# Altium footprint library SparkFun-Capacitors.PCBLIB: 37 footprints (part 2 of 3)
Each footprint in its own frame and in the unit in brackets; x right, y up, seen from the top. Pads: shape width x height; smd on the part's side, far side on the other; paste and mask are expansions set on the pad; w line width, h text height; cw(c..) or ccw(c..) is an arc to the next point about the centre after c.
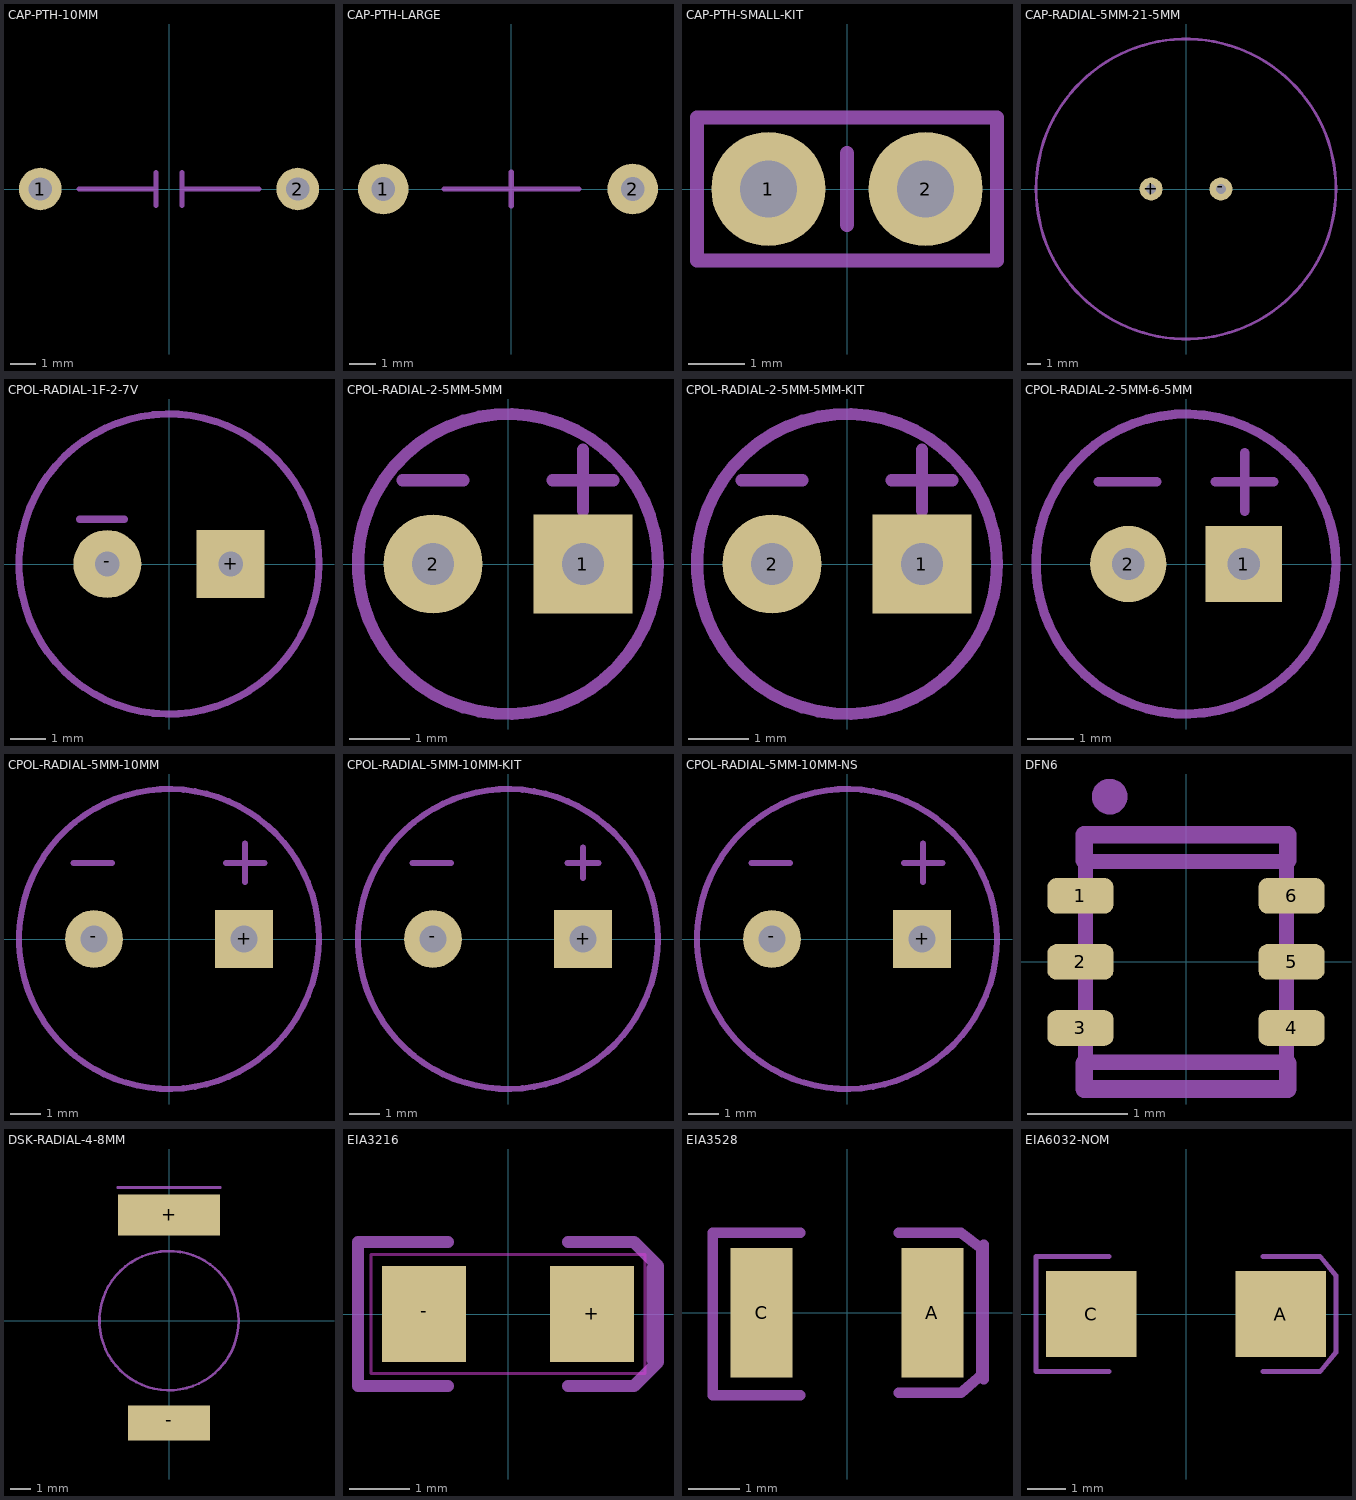
[diagram p1: the footprints below, top view; thin cyan lines are the x and y axes]

## CAP-PTH-10MM [mil]
pads (2):
  round 65 hole 35.43: 1(-196.85,0) 2(196.85,0)
tPlace:
  lines w8: -137.8,0 -19.69,0 ; -19.69,-25 -19.69,0 ; -19.69,25 -19.69,0 ; 19.69,-25 19.69,0 ; 19.69,25 19.69,0 ; 137.8,0 19.69,0

## CAP-PTH-LARGE [mil]
pads (2):
  round 75 hole 35.43: 1(-190,0) 2(180,0)
tPlace:
  lines w8: -100,0 0,0 ; 0,-25 0,0 ; 0,25 0,0 ; 100,0 0,0

## CAP-PTH-SMALL-KIT [mil]
pads (2):
  round 80 hole 40: 1(-55,0) 2(55,0)
Top Solder:
  region: -55.3,-17.3 -58.7,-17.38 -65.05,-14.92 -69.97,-10.23 -72.72,-4 -72.8,-0.6 -72.89,2.97 -70.32,9.64 -65.4,14.81 -58.87,17.71 -55.3,17.8 -51.78,17.74 -45.32,14.94 -40.42,9.87 -37.84,3.32 -37.9,-0.2 -37.93,-3.63 -40.61,-9.95 -45.51,-14.76 -51.87,-17.33 -55.3,-17.3
  region: 54.9,-17.3 51.5,-17.38 45.15,-14.92 40.23,-10.23 37.48,-4 37.4,-0.6 37.31,2.97 39.88,9.64 44.8,14.81 51.33,17.71 54.9,17.8 58.42,17.74 64.88,14.94 69.78,9.87 72.36,3.32 72.3,-0.2 72.27,-3.63 69.59,-9.95 64.69,-14.76 58.33,-17.33 54.9,-17.3
Bottom Solder:
  region: -55.2,-37.3 -58.85,-37.35 -66.04,-36.02 -72.83,-33.31 -78.96,-29.34 -84.2,-24.24 -88.34,-18.22 -91.23,-11.5 -92.75,-4.35 -92.8,-0.7 -92.84,3.04 -91.47,10.39 -88.7,17.33 -84.62,23.59 -79.39,28.94 -73.23,33.17 -66.35,36.11 -59.04,37.66 -55.3,37.7 -51.56,37.65 -44.25,36.08 -37.39,33.12 -31.23,28.88 -26.02,23.51 -21.96,17.24 -19.2,10.29 -17.85,2.94 -17.9,-0.8 -17.94,-4.43 -19.43,-11.55 -22.29,-18.23 -26.39,-24.24 -31.59,-29.32 -37.67,-33.29 -44.42,-36 -51.57,-37.34 -55.2,-37.3
  region: 55,-37.3 51.35,-37.35 44.16,-36.02 37.37,-33.31 31.24,-29.33 26.01,-24.24 21.87,-18.21 18.98,-11.5 17.46,-4.35 17.41,-0.7 17.36,3.04 18.73,10.39 21.51,17.33 25.59,23.59 30.81,28.94 36.98,33.17 43.85,36.11 51.16,37.66 54.9,37.7 58.64,37.65 65.95,36.08 72.81,33.12 78.97,28.88 84.18,23.51 88.24,17.24 91,10.29 92.35,2.94 92.3,-0.8 92.26,-4.43 90.77,-11.55 87.91,-18.23 83.81,-24.24 78.61,-29.32 72.53,-33.29 65.78,-36 58.63,-37.34 55,-37.3
tPlace:
  lines w10: 0,-25 0,25 ; -105,-50 105,-50 105,50 -105,50 -105,-50

## CAP-RADIAL-5MM-21-5MM [mil]
pads (2):
  round 65 hole 27.56: +(-98.43,0) -(98.43,0)
tPlace:
  circle w8: c0,0 r423.23
  text "+" at -452.76,0 h77.5
  text "+" at -177.17,0 h77.5

## CPOL-RADIAL-1F-2-7V [mil]
pads (2):
  rect 76x76 / inner round 70.21 / far side rect 76x76 hole 27.56: +(68.9,0)
  round 76 hole 27.56: -(-68.9,0)
tPlace:
  circle w8: c0,0 r167.5
  lines w8: -100,50 -50,50

## CPOL-RADIAL-2-5MM-5MM [mil]
pads (2):
  rect 65x65 / inner round 60.05 / far side rect 65x65 hole 27.56: 1(49.21,0)
  round 65 hole 27.56: 2(-49.21,0)
tPlace:
  circle w8: c0,0 r98.43
  lines w8: -69.21,55 -29.21,55 ; 29.21,55 69.21,55 ; 49.21,35 49.21,75

## CPOL-RADIAL-2-5MM-5MM-KIT [mil]
pads (2):
  rect 65x65 / inner round 60.05 / far side rect 65x65 hole 27.56: 1(49.21,0)
  round 65 hole 27.56: 2(-49.21,0)
Top Solder:
  circle w0: c-49.21,0 r14
  circle w0: c49.21,0 r14
Bottom Solder:
  circle w0: c-49.21,0 r38
  region: 11.21,-38 11.21,38 87.21,38 87.21,-38
tPlace:
  circle w8: c0,0 r98.43
  lines w8: -69.21,55 -29.21,55 ; 29.21,55 69.21,55 ; 49.21,35 49.21,75

## CPOL-RADIAL-2-5MM-6-5MM [mil]
pads (2):
  rect 65x65 / inner round 60.05 / far side rect 65x65 hole 27.56: 1(49.21,0)
  round 65 hole 27.56: 2(-49.21,0)
tPlace:
  circle w8: c0,0 r127.95
  lines w8: -75,70 -25,70 ; 25,70 75,70 ; 50,45 50,95

## CPOL-RADIAL-5MM-10MM [mil]
pads (2):
  rect 76x76 / inner round 70.21 / far side rect 76x76 hole 35.43: +(98.43,0)
  round 76 hole 35.43: -(-98.43,0)
tPlace:
  circle w8: c0,0 r196.85
  lines w8: -125,100 -75,100 ; 75,100 125,100 ; 100,75 100,125

## CPOL-RADIAL-5MM-10MM-KIT [mil]
pads (2):
  rect 76x76 / inner round 70.21 / far side rect 76x76 hole 35.43: +(98.43,0)
  round 76 hole 35.43: -(-98.43,0)
Top Solder:
  circle w0: c-98.43,0 r17.6
  circle w0: c98.43,0 r17.72
Bottom Solder:
  circle w0: c-98.43,0 r38.5
  region: 59.06,-39.37 59.06,39.37 137.8,39.37 137.8,-39.37
tPlace:
  circle w8: c0,0 r196.85
  lines w8: -125,100 -75,100 ; 78.43,100 118.43,100 ; 98.43,80 98.43,120

## CPOL-RADIAL-5MM-10MM-NS [mil]
pads (2):
  rect 76x76 / inner round 70.21 / far side rect 76x76 hole 35.43: +(98.43,0)
  round 76 hole 35.43: -(-98.43,0)
tDocu:
  circle w8: c0,0 r196.85
  lines w8: -125,100 -75,100 ; 75,100 125,100 ; 100,75 100,125

## DFN6 [mil]
pads (6):
  rrect50% 26x14 smd: 1(-41.5,26) 2(-41.5,0) 3(-41.5,-26) 4(41.5,-26) 5(41.5,0) 6(41.5,26)
tDocu:
  lines w6: -39.5,-39.5 39.5,-39.5 39.5,39.5 -39.5,39.5 -39.5,-39.5
tPlace:
  circle w8: c-30,65 r3
  lines w7: -40,-40 -40,-50 40,-50 40,-40 ; -40,40 -40,50 40,50 40,40

## DSK-RADIAL-4-8MM [mm]
pads (2):
  rect 5x2 smd: +(0,5.15)
  rect 4x1.7 smd: -(0,-5)
tPlace:
  circle w0.127: c0,0 r3.4
  lines w0.127: -2.5,6.5 2.5,6.5

## EIA3216 [mil]
pads (2):
  rect 55.12x62.99 smd: +(55.12,0) -(-55.12,0)
Top keep-out:
  lines w2: -90,-39 90,-39 90,39 -90,39 -90,-39
tDocu:
  lines w8: -39.37,-47.24 -98.43,-47.24 -98.43,47.24 -39.37,47.24 ; 39.37,-47.24 82.68,-47.24 98.43,-31.5 98.43,31.5 82.68,47.24 39.37,47.24
tPlace:
  lines w8: 95,-30 95,30

## EIA3528 [mm]
pads (2):
  rect 1.2x2.5 smd: A(1.65,0) C(-1.65,0)
tDocu:
  lines w0.203: -0.9,-1.6 -2.6,-1.6 -2.6,1.55 -0.9,1.55 ; 1,-1.55 2.2,-1.55 2.6,-1.2 2.6,1.25 2.2,1.55 1,1.55
tPlace:
  lines w0.203: 2.641,-1.286 2.641,1.311

## EIA6032-NOM [mil]
pads (2):
  rect 93.31x87.8 smd: A(97.24,0) C(-97.24,0)
tDocu:
  lines w5: -78.74,-59.06 -153.94,-59.06 -153.94,59.06 -78.74,59.06 ; 78.74,-59.06 137.8,-59.06 153.94,-39.37 153.94,39.37 137.8,59.06 78.74,59.06
tPlace:
  lines w5: 153.94,-39.37 153.94,39.37